# Altium integrated library 2199230-5.IntLib: 1 symbol
Pins are listed as number, name and electrical type; pins without a type are passive.

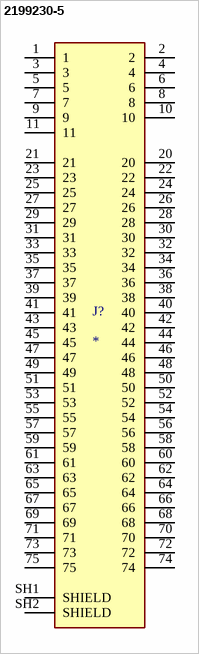
[diagram p0: symbol 2199230-5]

## 2199230-5
designator J?
67 Position Female Connector M.2 (NGFF) Mini Card Gold 0.020 (0.50mm) Black; MF: TE Connectivity; MP: 2199230-5; SnapEDA_Link: https://www.snapeda.com/parts/2199230-5/TE+Connectivity+AMP+Connectors/view-part/?ref=snap; Package: None; Value: *; Check_prices: https://www.snapeda.com/parts/2199230-5/TE+Connectivity+AMP+Connectors/view-part/?ref=eda
footprint TE_2199230-5
pins: 1, 2, 3, 4, 5, 6, 7, 8, 9, 10, 11, 20, 21, 22, 23, 24, 25, 26, 27, 28, 29, 30, 31, 32, 33, 34, 35, 36, 37, 38, 39, 40, 41, 42, 43, 44, 45, 46, 47, 48, 49, 50, 51, 52, 53, 54, 55, 56, 57, 58, 59, 60, 61, 62, 63, 64, 65, 66, 67, 68, 69, 70, 71, 72, 73, 74, 75, SH1 SHIELD, SH2 SHIELD